# Altium schematic symbol library STM32H747XIH6 CB V1.2.SCHLIB: 32 symbols
Pins are listed as number, name and electrical type; pins without a type are passive.

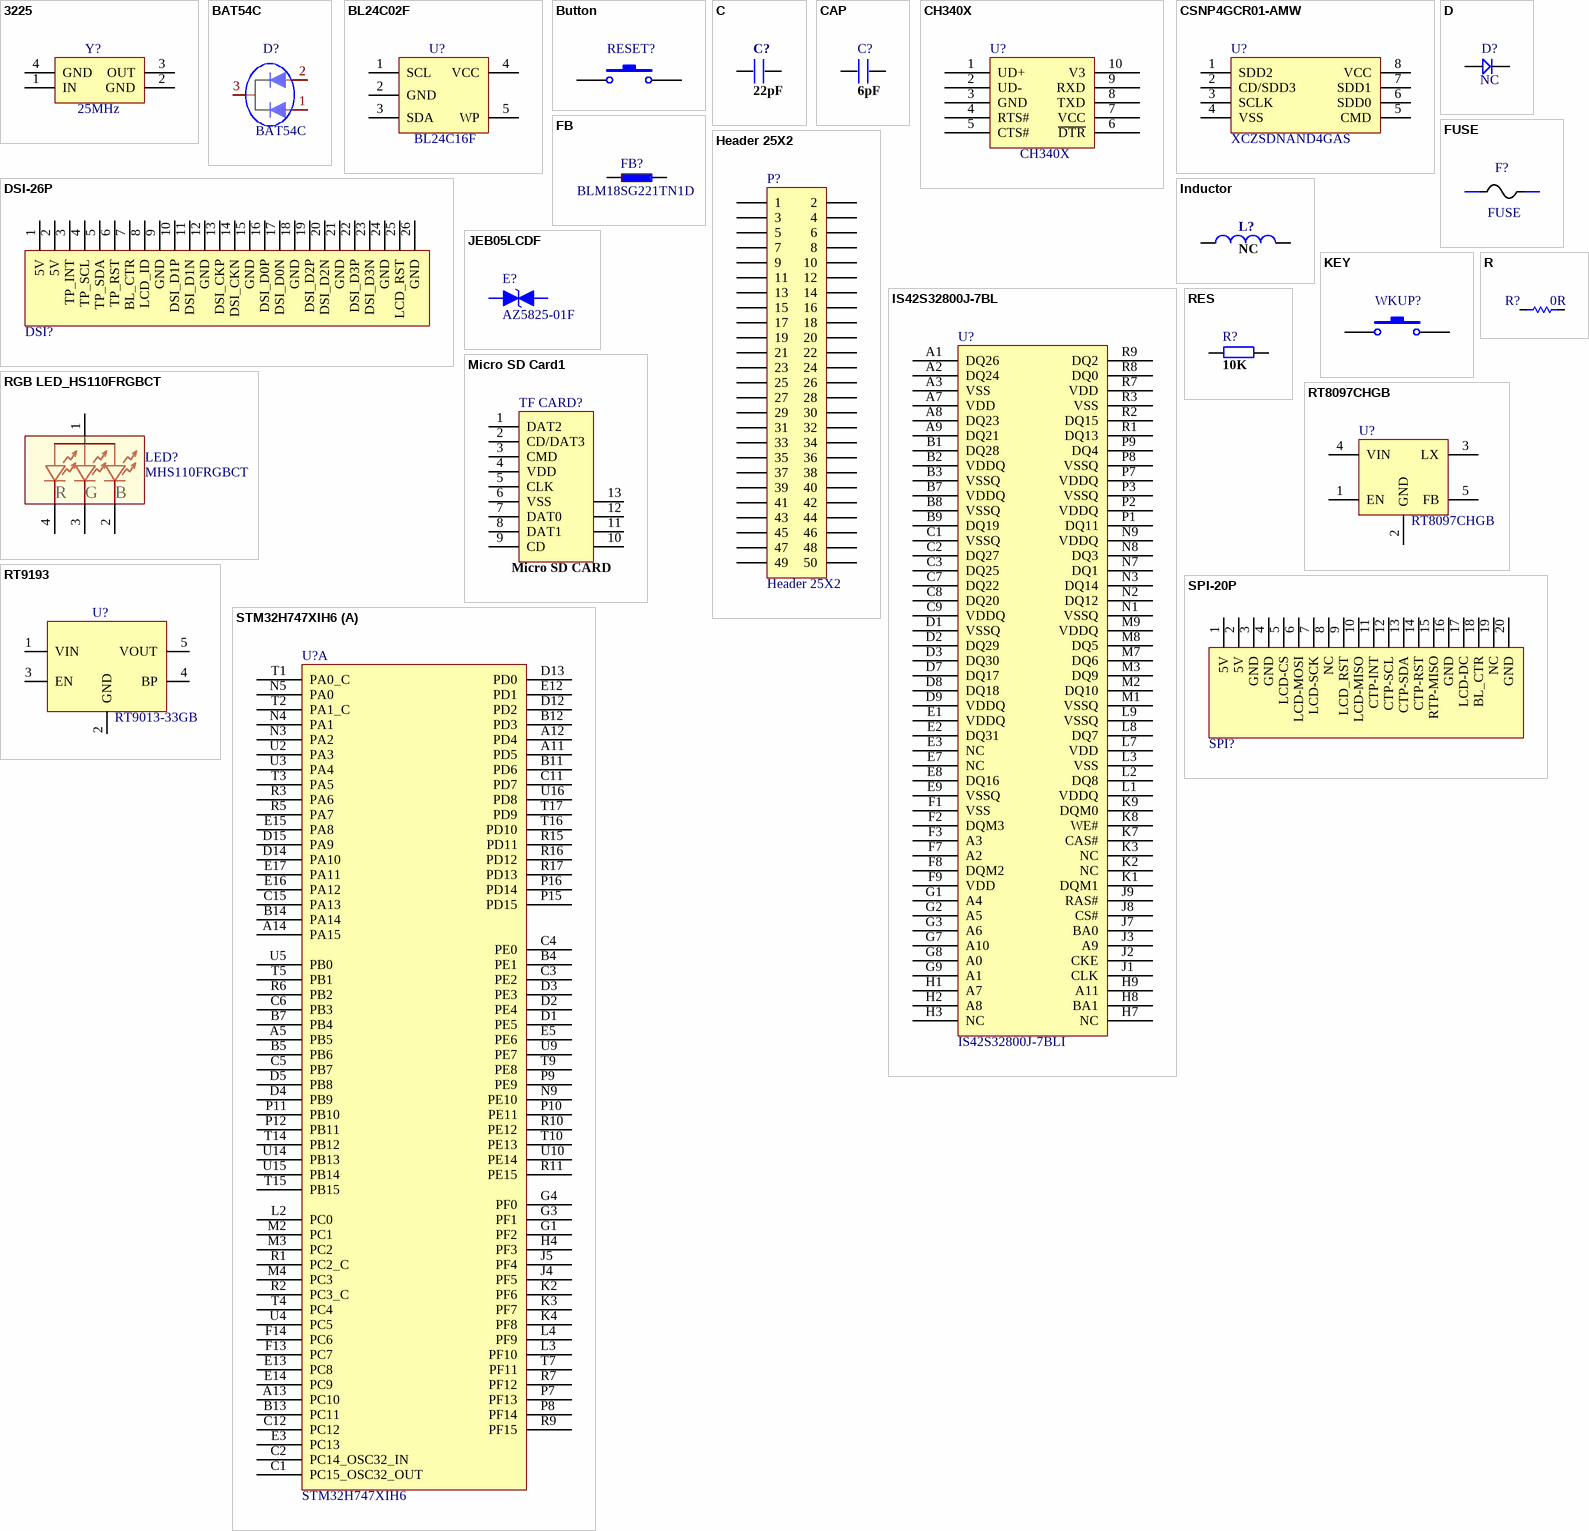
[diagram p0: symbols 3225 to STM32H747XIH6]

## 3225
designator Y?, comment 25MHz
footprint 3225
footprint OSC-4P-2520
pins: 1 IN, 2 GND, 3 OUT, 4 GND

## BAT54C
designator D?
footprint BAT54C
pins: 1 A1, 2 A2, 3 K

## BL24C02F
designator U?, comment BL24C16F
footprint TSOT23-5L
pins: 1 SCL, 2 GND, 3 SDA, 4 VCC, 5 WP

## Button
designator RESET?
footprint KEY_M
footprint TSW SMD-3*4*2.5
pins: 1, 2

## C
designator C?, comment 22pF
footprint 0603P
footprint 0805
footprint CC5.08 (CAP0.1)
footprint CC4.572 (222/332)
footprint 1206
footprint 1210
footprint CC6.096
footprint CC7.62
footprint 0603P
footprint 0402P
footprint 0603P
footprint 0402P
pins: 1, 2

## CAP
designator C?, comment 6pF
footprint 0603P
footprint 0805
footprint 0402P
pins: 1, 2

## CH340X
designator U?
footprint TYPE-C-31-M-12
footprint MSOP-10
pins: 1 UD+, 2 UD-, 3 GND, 4 RTS#, 5 CTS#, 6 ~{DTR}, 7 VCC, 8 TXD, 9 RXD, 10 V3

## CSNP4GCR01-AMW
designator U?, comment XCZSDNAND4GAS
footprint LGA-8
pins: 1 SDD2, 2 CD/SDD3, 3 SCLK, 4 VSS, 5 CMD, 6 SDD0, 7 SDD1, 8 VCC

## D
designator D?, comment NC
footprint SOD-123
footprint DIODE_SOP
footprint DIODE-L (6A10)
footprint DIODE-M (1N5822)
footprint DIODE_S (1N4007)
footprint DIODE_3*5.3 (ME:SS14/SS24;L:5.3mm;W:3mm;)
footprint DIODE_4*5.6 (ME:RS2J.L:5.6mm;W:4mm)
footprint DIODE_6.2*8.13 (ME:RS2J.L:8.13mm;W:6.2mm)
footprint DIODE_SOP
footprint SOD-323
pins: 1, 2

## DSI-26P
designator DSI?, comment DSI interface-26P  (value not drawn)
footprint 0.5K-DX-26PWB-1
pins: 1 5V, 2 5V, 3 TP_INT, 4 TP_SCL, 5 TP_SDA, 6 TP_RST, 7 BL_CTR, 8 LCD_ID, 9 GND, 10 DSI_D1P, 11 DSI_D1N, 12 GND, 13 DSI_CKP, 14 DSI_CKN, 15 GND, 16 DSI_D0P, 17 DSI_D0N, 18 GND, 19 DSI_D2P, 20 DSI_D2N, 21 GND, 22 DSI_D3P, 23 DSI_D3N, 24 GND, 25 LCD_RST, 26 GND

## FB
designator FB?, comment BLM18SG221TN1D
footprint 0805P
footprint 0603P
footprint 0402P
pins: 1, 2

## FUSE
designator F?
footprint 1206P
pins: 1, 2

## Header 25X2
designator P?
Header, 25-Pin, Dual row; LatestRevisionDate: 17-Jul-2002; LatestRevisionNote: Re-released for DXP Platform.; Publisher: Altium Limited
footprint HDR2X25 (Connector; Header; 25x2 Position)
signal-integrity model Connector
footprint HEADER25*2
pins: 1, 2, 3, 4, 5, 6, 7, 8, 9, 10, 11, 12, 13, 14, 15, 16, 17, 18, 19, 20, 21, 22, 23, 24, 25, 26, 27, 28, 29, 30, 31, 32, 33, 34, 35, 36, 37, 38, 39, 40, 41, 42, 43, 44, 45, 46, 47, 48, 49, 50

## Inductor
designator L?, comment NC
Inductor; Code_IEC: 1005; Value: 10uH; Published: 8-Jun-2000; LatestRevisionDate: 17-Jul-2002; LatestRevisionNote: Re-released for DXP Platform.; PackageReference: 0402-A; Publisher: Altium Limited; Code_JEITA: 0402
footprint 0402-A (Chip Inductor; Body 1 x 0.5 mm (LxW typ))
footprint L0603 (Chip Inductor; Body 1.6 x 0.8 mm (LxW typ))
footprint 2012_Chip (2012 Chip; Chip Inductor; Body 2.0 x 1.2 mm (LxW typ))
footprint 2029 (Chip Inductor; Body 2 x 1.2 mm (LxW typ))
footprint 3261 (3216 Chip; Chip Inductor; Body 3.2 x 1.6 mm (LxW typ))
footprint 4564_Chip (4564 Chip; Chip Inductor; Body 4.5 x 6.4 mm (LxW typ))
simulation model INDUCTOR (Inductor)
signal-integrity model Inductor
footprint CD43
footprint NR6020
footprint 0420-4R7
footprint 252012-2R2
pins: 1, 2

## IS42S32800J-7BL
designator U?, comment IS42S32800J-7BLI
footprint TFBGA-90-P0.8
pins: A1 DQ26, A2 DQ24, A3 VSS, A7 VDD, A8 DQ23, A9 DQ21, B1 DQ28, B2 VDDQ, B3 VSSQ, B7 VDDQ, B8 VSSQ, B9 DQ19, C1 VSSQ, C2 DQ27, C3 DQ25, C7 DQ22, C8 DQ20, C9 VDDQ, D1 VSSQ, D2 DQ29, D3 DQ30, D7 DQ17, D8 DQ18, D9 VDDQ, E1 VDDQ, E2 DQ31, E3 NC, E7 NC, E8 DQ16, E9 VSSQ, F1 VSS, F2 DQM3, F3 A3, F7 A2, F8 DQM2, F9 VDD, G1 A4, G2 A5, G3 A6, G7 A10, G8 A0, G9 A1, H1 A7, H2 A8, H3 NC, H7 NC, H8 BA1, H9 A11, J1 CLK, J2 CKE, J3 A9, J7 BA0, J8 CS#, J9 RAS#, K1 DQM1, K2 NC, K3 NC, K7 CAS#, K8 WE#, K9 DQM0, L1 VDDQ, L2 DQ8, L3 VSS, L7 VDD, L8 DQ7, L9 VSSQ, M1 VSSQ, M2 DQ10, M3 DQ9, M7 DQ6, M8 DQ5, M9 VDDQ, N1 VSSQ, N2 DQ12, N3 DQ14, N7 DQ1, N8 DQ3, N9 VDDQ, P1 DQ11, P2 VDDQ, P3 VSSQ, P7 VDDQ, P8 VSSQ, P9 DQ4, R1 DQ13, R2 DQ15, R3 VSS, R7 VDD, R8 DQ0, R9 DQ2

## JEB05LCDF
designator E?, comment AZ5825-01F
footprint DFN1006-2L-BI
pins: 1, 2

## KEY
designator WKUP?
footprint KEY_M
footprint TSW SMD-3*4*2.5
pins: 1, 2

## Micro SD Card1
designator TF CARD?, comment Micro SD CARD
footprint TF Card
pins: 1 DAT2, 2 CD/DAT3, 3 CMD, 4 VDD, 5 CLK, 6 VSS, 7 DAT0, 8 DAT1, 9 CD, 10, 11, 12, 13

## R
designator R?, comment 0R
footprint 0402P
pins: 1, 2

## RES
designator R?, comment 10K
footprint 0805
footprint 0603P
footprint 0402P
footprint 0201P
pins: 1, 2

## RGB LED_HS110FRGBCT
designator LED?, comment MHS110FRGBCT
footprint MHS110FRGBCT_3.2X1.0
pins: 1, 2, 3, 4
text: R; G; B

## RT8097CHGB
designator U?
footprint SOT-23-5-RT8097CHGB
pins: 1 EN, 2 GND, 3 LX, 4 VIN, 5 FB

## RT9193
designator U?, comment RT9013-33GB
footprint SOT-23-5
pins: 1 VIN, 2 GND, 3 EN, 4 BP, 5 VOUT

## SPI-20P
designator SPI?  (value not drawn)
footprint 0.5K-DX-20PWB
pins: 1 5V, 2 5V, 3 GND, 4 GND, 5 LCD-CS, 6 LCD-MOSI, 7 LCD-SCK, 8 NC, 9 LCD_RST, 10 LCD-MISO, 11 CTP-INT, 12 CTP-SCL, 13 CTP-SDA, 14 CTP-RST, 15 RTP-MISO, 16 GND, 17 LCD-DC, 18 BL_CTR, 19 NC, 20 GND

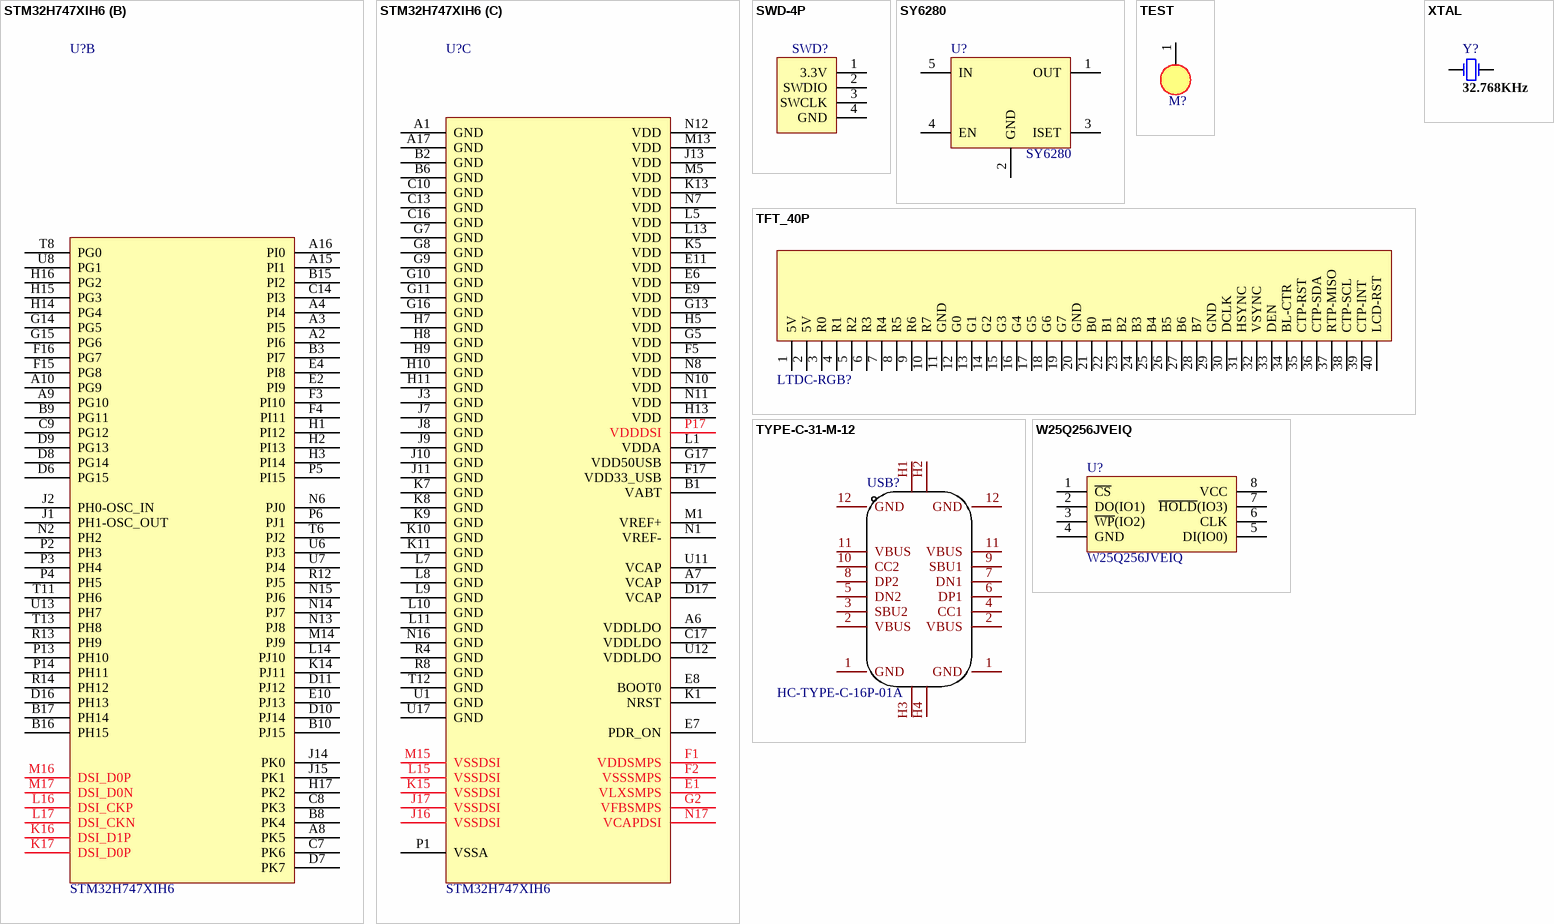
[diagram p1: symbols STM32H747XIH6 to XTAL]

## STM32H747XIH6
designator U?
footprint TFBGA-265-P0.8
part A pins: A5 PB5, A11 PD5, A12 PD4, A13 PC10, A14 PA15, B4 PE1, B5 PB6, B7 PB4, B11 PD6, B12 PD3, B13 PC11, B14 PA14, C1 PC15_OSC32_OUT, C2 PC14_OSC32_IN, C3 PE2, C4 PE0, C5 PB7, C6 PB3, C11 PD7, C12 PC12, C15 PA13, D1 PE5, D2 PE4, D3 PE3, D4 PB9, D5 PB8, D12 PD2, D13 PD0, D14 PA10, D15 PA9, E3 PC13, E5 PE6, E12 PD1, E13 PC8, E14 PC9, E15 PA8, E16 PA12, E17 PA11, F13 PC7, F14 PC6, G1 PF2, G3 PF1, G4 PF0, H4 PF3, J4 PF5, J5 PF4, K2 PF6, K3 PF7, K4 PF8, L2 PC0, L3 PF10, L4 PF9, M2 PC1, M3 PC2, M4 PC3, N3 PA2, N4 PA1, N5 PA0, N9 PE10, P7 PF13, P8 PF14, P9 PE9, P10 PE11, P11 PB10, P12 PB11, P15 PD15, P16 PD14, R1 PC2_C, R2 PC3_C, R3 PA6, R5 PA7, R6 PB2, R7 PF12, R9 PF15, R10 PE12, R11 PE15, R15 PD11, R16 PD12, R17 PD13, T1 PA0_C, T2 PA1_C, T3 PA5, T4 PC4, T5 PB1, T7 PF11, T9 PE8, T10 PE13, T14 PB12, T15 PB15, T16 PD10, T17 PD9, U2 PA3, U3 PA4, U4 PC5, U5 PB0, U9 PE7, U10 PE14, U14 PB13, U15 PB14, U16 PD8
part B pins: A2 PI6, A3 PI5, A4 PI4, A8 PK5, A9 PG10, A10 PG9, A15 PI1, A16 PI0, B3 PI7, B8 PK4, B9 PG11, B10 PJ15, B15 PI2, B16 PH15, B17 PH14, C7 PK6, C8 PK3, C9 PG12, C14 PI3, D6 PG15, D7 PK7, D8 PG14, D9 PG13, D10 PJ14, D11 PJ12, D16 PH13, E2 PI9, E4 PI8, E10 PJ13, F3 PI10, F4 PI11, F15 PG8, F16 PG7, G14 PG5, G15 PG6, H1 PI12, H2 PI13, H3 PI14, H14 PG4, H15 PG3, H16 PG2, H17 PK2, J1 PH1-OSC_OUT, J2 PH0-OSC_IN, J14 PK0, J15 PK1, K14 PJ11, K16 DSI_D1P, K17 DSI_D0P, L14 PJ10, L16 DSI_CKP, L17 DSI_CKN, M14 PJ9, M16 DSI_D0P, M17 DSI_D0N, N2 PH2, N6 PJ0, N13 PJ8, N14 PJ7, N15 PJ6, P2 PH3, P3 PH4, P4 PH5, P5 PI15, P6 PJ1, P13 PH10, P14 PH11, R12 PJ5, R13 PH9, R14 PH12, T6 PJ2, T8 PG0, T11 PH6, T13 PH8, U6 PJ3, U7 PJ4, U8 PG1, U13 PH7
part C pins: A1 GND, A6 VDDLDO, A7 VCAP, A17 GND, B1 VABT, B2 GND, B6 GND, C10 GND, C13 GND, C16 GND, C17 VDDLDO, D17 VCAP, E1 VLXSMPS, E6 VDD, E7 PDR_ON, E8 BOOT0, E9 VDD, E11 VDD, F1 VDDSMPS, F2 VSSSMPS, F5 VDD, F17 VDD33_USB, G2 VFBSMPS, G5 VDD, G7 GND, G8 GND, G9 GND, G10 GND, G11 GND, G13 VDD, G16 GND, G17 VDD50USB, H5 VDD, H7 GND, H8 GND, H9 GND, H10 GND, H11 GND, H13 VDD, J3 GND, J7 GND, J8 GND, J9 GND, J10 GND, J11 GND, J13 VDD, J16 VSSDSI, J17 VSSDSI, K1 NRST, K5 VDD, K7 GND, K8 GND, K9 GND, K10 GND, K11 GND, K13 VDD, K15 VSSDSI, L1 VDDA, L5 VDD, L7 GND, L8 GND, L9 GND, L10 GND, L11 GND, L13 VDD, L15 VSSDSI, M1 VREF+, M5 VDD, M13 VDD, M15 VSSDSI, N1 VREF-, N7 VDD, N8 VDD, N10 VDD, N11 VDD, N12 VDD, N16 GND, N17 VCAPDSI, P1 VSSA, P17 VDDDSI, R4 GND, R8 GND, T12 GND, U1 GND, U11 VCAP, U12 VDDLDO, U17 GND

## SWD-4P
designator SWD?
footprint A2001WR-S-4P
pins: 1 3.3V, 2 SWDIO, 3 SWCLK, 4 GND

## SY6280
designator U?
footprint SOT-23-5_L3.0-W1.7-P0.95
pins: 1 OUT, 2 GND, 3 ISET, 4 EN, 5 IN

## TEST
designator M?
footprint SMTSO-M2.5-6ET
footprint SMTSO-M2.5-6ET-1
footprint M3-5.4mm
footprint M3-5.3mm
footprint M3.1-5.3
pins: 1

## TFT_40P
designator LTDC-RGB?  (value not drawn)
footprint 0.5K-DX-40PWB-1
pins: 1 5V, 2 5V, 3 R0, 4 R1, 5 R2, 6 R3, 7 R4, 8 R5, 9 R6, 10 R7, 11 GND, 12 G0, 13 G1, 14 G2, 15 G3, 16 G4, 17 G5, 18 G6, 19 G7, 20 GND, 21 B0, 22 B1, 23 B2, 24 B3, 25 B4, 26 B5, 27 B6, 28 B7, 29 GND, 30 DCLK, 31 HSYNC, 32 VSYNC, 33 DEN, 34 BL-CTR, 35 CTP-RST, 36 CTP-SDA, 37 RTP-MISO, 38 CTP-SCL, 39 CTP-INT, 40 LCD-RST

## TYPE-C-31-M-12
designator USB?, comment HC-TYPE-C-16P-01A
footprint TYPE-C-31-M-12
pins: 1 GND, 1 GND, 2 VBUS, 2 VBUS, 3 SBU2, 4 CC1, 5 DN2, 6 DP1, 7 DN1, 8 DP2, 9 SBU1, 10 CC2, 11 VBUS, 11 VBUS, 12 GND, 12 GND, H1, H2, H3, H4

## W25Q256JVEIQ
designator U?
footprint SOIC-8
footprint WSON_8X6
pins: 1 ~{CS}, 2 DO(IO1), 3 ~{WP}(IO2), 4 GND, 5 DI(IO0), 6 CLK, 7 ~{HOLD}(IO3), 8 VCC

## XTAL
designator Y?, comment 32.768KHz
footprint XTAL32
footprint 3215-2P
footprint YSX2012SK
pins: 1 OSC1, 2 OSC2